# EAGLE library part MSP430FR5994 (library my_library)
16Bit Mixed Signal Microcontroller, 256KB FRAM, 16MHz
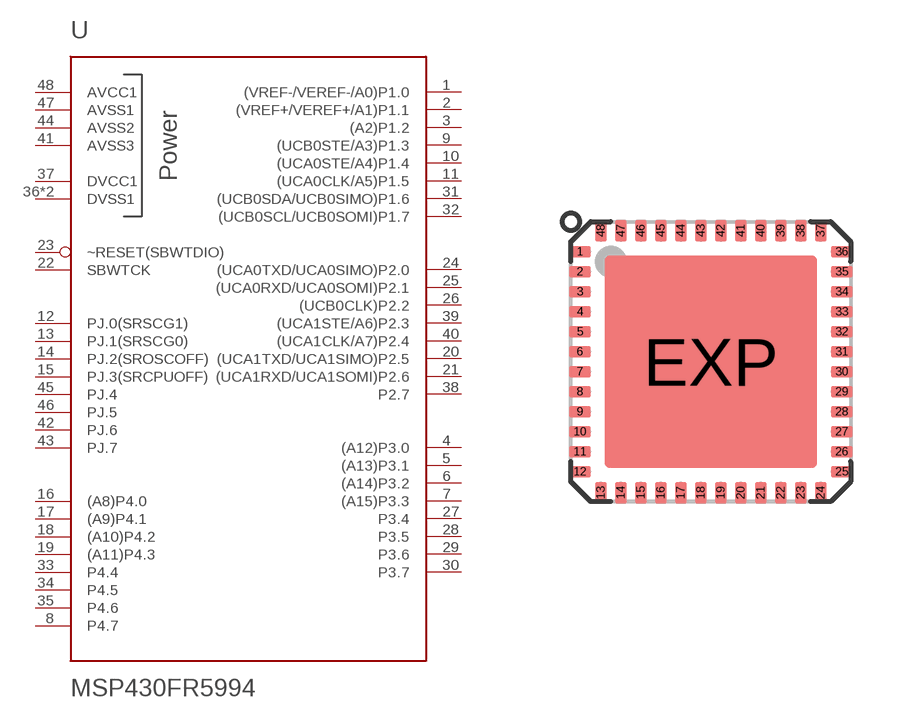
[diagram p3: symbol with the pads of QFN48; footprint QFN48]

Designator prefix U

## MSP430FR5994  [QFN48]
1  (VREF-/VEREF-/A0)P1.0
2  (VREF+/VEREF+/A1)P1.1
3  (A2)P1.2
4  (A12)P3.0
5  (A13)P3.1
6  (A14)P3.2
7  (A15)P3.3
8  P4.7
9  (UCB0STE/A3)P1.3
10  (UCA0STE/A4)P1.4
11  (UCA0CLK/A5)P1.5
12  PJ.0(SRSCG1)
13  PJ.1(SRSCG0)
14  PJ.2(SROSCOFF)
15  PJ.3(SRCPUOFF)
16  (A8)P4.0
17  (A9)P4.1
18  (A10)P4.2
19  (A11)P4.3
20  (UCA1TXD/UCA1SIMO)P2.5
21  (UCA1RXD/UCA1SOMI)P2.6
22  SBWTCK
23  ~RESET(SBWTDIO)  in
24  (UCA0TXD/UCA0SIMO)P2.0
25  (UCA0RXD/UCA0SOMI)P2.1
26  (UCB0CLK)P2.2
27  P3.4
28  P3.5
29  P3.6
30  P3.7
31  (UCB0SDA/UCB0SIMO)P1.6
32  (UCB0SCL/UCB0SOMI)P1.7
33  P4.4
34  P4.5
35  P4.6
36  DVSS1  pwr
37  DVCC1  pwr
38  P2.7
39  (UCA1STE/A6)P2.3
40  (UCA1CLK/A7)P2.4
41  AVSS3  pwr
42  PJ.6
43  PJ.7
44  AVSS2  pwr
45  PJ.4
46  PJ.5
47  AVSS1  pwr
48  AVCC1  pwr
EXP  DVSS1  pwr

## Footprint QFN48 (pad centres in mm)
48-pin QFN 7 x 7 mm LF48 48 Quad Flat Package No Leads Source: http://v4.cypress.com/cfuploads/img/products/cywusb6934.pdf
smd 0.55 x 0.3: 1 -3.275,2.75; 2 -3.275,2.25; 3 -3.275,1.75; 4 -3.275,1.25; 5 -3.275,0.75; 6 -3.275,0.25; 7 -3.275,-0.25; 8 -3.275,-0.75; 9 -3.275,-1.25; 10 -3.275,-1.75; 11 -3.275,-2.25; 12 -3.275,-2.75; 25 3.275,-2.75; 26 3.275,-2.25; 27 3.275,-1.75; 28 3.275,-1.25; 29 3.275,-0.75; 30 3.275,-0.25; 31 3.275,0.25; 32 3.275,0.75; 33 3.275,1.25; 34 3.275,1.75; 35 3.275,2.25; 36 3.275,2.75
smd 0.3 x 0.55: 13 -2.75,-3.275; 14 -2.25,-3.275; 15 -1.75,-3.275; 16 -1.25,-3.275; 17 -0.75,-3.275; 18 -0.25,-3.275; 19 0.25,-3.275; 20 0.75,-3.275; 21 1.25,-3.275; 22 1.75,-3.275; 23 2.25,-3.275; 24 2.75,-3.275; 37 2.75,3.275; 38 2.25,3.275; 39 1.75,3.275; 40 1.25,3.275; 41 0.75,3.275; 42 0.25,3.275; 43 -0.25,3.275; 44 -0.75,3.275; 45 -1.25,3.275; 46 -1.75,3.275; 47 -2.25,3.275; 48 -2.75,3.275
smd 5.309 x 5.309: EXP 0,0